# Altium footprint library MB1419.PcbLib: 49 footprints (part 2 of 4)
Each footprint in its own frame and in the unit in brackets; x right, y up, seen from the top. Pads: shape width x height; smd on the part's side, far side on the other; paste and mask are expansions set on the pad; w line width, h text height; cw(c..) or ccw(c..) is an arc to the next point about the centre after c.
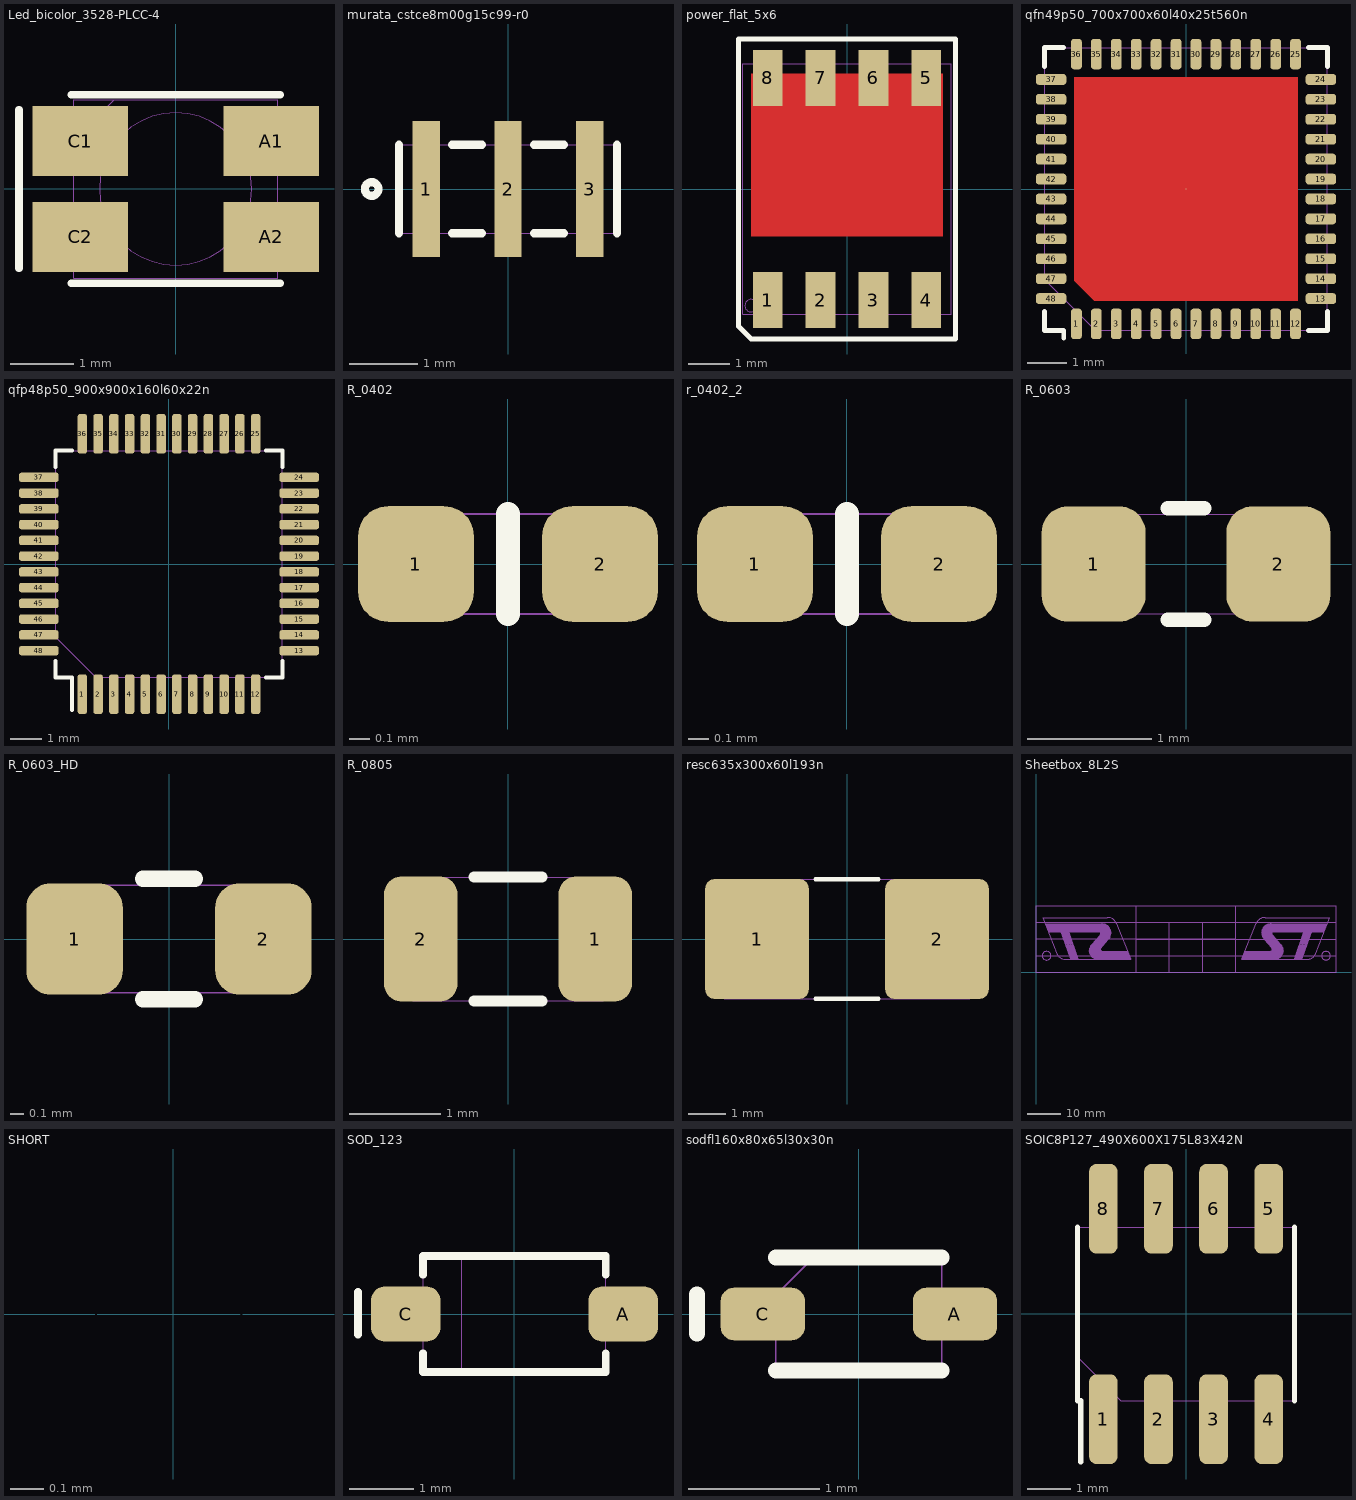
[diagram p1: the footprints below, top view; thin cyan lines are the x and y axes]

## Led_bicolor_3528-PLCC-4 [mm]
pads (4):
  rect 1.5x1.1 smd mask+0.05: A1(1.5,0.75) A2(1.5,-0.753) C1(-1.5,0.75) C2(-1.5,-0.753)
Top Overlay:
  lines w0.12: -2.46,-1.245 -2.46,1.245 ; -1.638,-1.48 1.638,-1.48 ; -1.638,1.48 1.638,1.48
Mechanical 14:
  circle w0.01: c0,0 r1.196
  lines w0.01: -1.6,0.765 -0.965,1.4 ; -1.6,-1.4 -1.6,1.4 1.6,1.4 1.6,-1.4 -1.6,-1.4
  text "'.Designator'" at -2,-0.5 h0.75
  text "K" at -2.175,-1.1 h1
  text "K" at -2.175,0.425 h1
  text "C2" at -1.55,-0.925 h0.5
  text "C1" at -1.5,0.575 h0.5
  text "A1" at 1.075,0.6 h0.5
  text "A2" at 1.025,-0.925 h0.5
3D body "SBTW-3528.stp": height 1.91, standoff 0.01, extent -1.75,-1.4 1.75,1.4

## murata_cstce8m00g15c99-r0 [mm]
pads (3):
  rect 0.4x2 smd mask+0.05: 1(-1.2,0) 2(0,0) 3(1.2,0)
Top Overlay:
  circle w0.12: c-2,0 r0.1
  lines w0.12: -1.6,-0.65 -1.6,0.65 ; -0.82,-0.65 -0.38,-0.65 ; -0.82,0.65 -0.38,0.65 ; 0.38,-0.65 0.82,-0.65 ; 0.38,0.65 0.82,0.65 ; 1.6,-0.65 1.6,0.65
Mechanical 14:
  circle w0.01: c-1.2,0.375 r0.1
  lines w0.01: -1.6,-0.65 1.6,-0.65 1.6,0.65 -1.6,0.65 -1.6,-0.65
  text "'.Designator'" at -2,-0.1 h0.75
  text "1" at -1.325,-0.6 h1
  text "3" at 1,-0.6 h1
  text "2" at -0.225,-0.6 h1
3D body "CSTCE.STEP": height 0.7, standoff 0, extent -1.6,-0.65 1.6,0.65

## power_flat_5x6 [mm]
pads (8):
  rect 0.71x1.35 smd mask+0.05: 1(-1.905,-2.665) 2(-0.635,-2.665) 3(0.635,-2.665) 4(1.905,-2.665) 5(1.905,2.665) 6(0.635,2.665) 7(-0.635,2.665) 8(-1.905,2.665)
Top Layer:
  region: 2.3,-1.13 2.3,2.77 -2.3,2.77 -2.3,-1.13
Top Overlay:
  lines w0.12: -2.6,-3.3 -2.6,3.6 2.6,3.6 2.6,-3.6 -2.3,-3.6 -2.6,-3.3
Top Paste:
  rectangle: 0.2,-1.1 2.159,0.594
  rectangle: 0.2,0.994 2.159,2.694
  rectangle: -2.15,-1.1 -0.2,0.6
  rectangle: -2.15,0.997 -0.2,2.697
Mechanical 14:
  circle w0.01: c-2.3,-2.8 r0.15
  lines w0.01: -2.5,-3 2.5,-3 2.5,3 -2.5,3 -2.5,-3
  text "'.Designator'" at 1.975,0.275 h0.75
  text "5" at 1.7,2.3 h1
  text "4" at 1.675,-2.95 h1
  text "6" at 0.425,2.3 h1
  text "7" at -0.85,2.3 h1
  text "8" at -2.125,2.3 h1
  text "2" at -0.85,-2.95 h1
  text "1" at -2.025,-2.95 h1
  text "3" at 0.425,-2.95 h1
3D body "PowerFLAT 5x6.STEP": height 0.98, standoff -0.01, extent -2.605,-3.1 2.595,3.05

## qfn49p50_700x700x60l40x25t560n [mm]
pads (49):
  rrect52% 0.27x0.76 smd mask+0.05: 1(-2.75,-3.385) 2(-2.25,-3.385) 3(-1.75,-3.385) 4(-1.25,-3.385) 5(-0.75,-3.385) 6(-0.25,-3.385) 7(0.25,-3.385) 8(0.75,-3.385) 9(1.25,-3.385) 10(1.75,-3.385) 11(2.25,-3.385) 12(2.75,-3.385) 25(2.75,3.385) 26(2.25,3.385) 27(1.75,3.385) 28(1.25,3.385) 29(0.75,3.385) 30(0.25,3.385) 31(-0.25,3.385) 32(-0.75,3.385) 33(-1.25,3.385) 34(-1.75,3.385) 35(-2.25,3.385) 36(-2.75,3.385)
  rrect52% 0.76x0.27 smd mask+0.05: 13(3.385,-2.75) 14(3.385,-2.25) 15(3.385,-1.75) 16(3.385,-1.25) 17(3.385,-0.75) 18(3.385,-0.25) 19(3.385,0.25) 20(3.385,0.75) 21(3.385,1.25) 22(3.385,1.75) 23(3.385,2.25) 24(3.385,2.75) 37(-3.385,2.75) 38(-3.385,2.25) 39(-3.385,1.75) 40(-3.385,1.25) 41(-3.385,0.75) 42(-3.385,0.25) 43(-3.385,-0.25) 44(-3.385,-0.75) 45(-3.385,-1.25) 46(-3.385,-1.75) 47(-3.385,-2.25) 48(-3.385,-2.75)
  oct 0.025x0.025 smd mask+0.05: 49(0,0)
Top Layer:
  region: -2.8,2.8 -2.8,-2.3 -2.3,-2.8 2.8,-2.8 2.8,2.8
Top Overlay:
  lines w0.12: -3.55,-3.07 -3.55,-3.55 -3.07,-3.55 -3.07,-3.745 ; -3.55,3.07 -3.55,3.55 -3.07,3.55 ; 3.07,-3.55 3.55,-3.55 3.55,-3.07 ; 3.07,3.55 3.55,3.55 3.55,3.07
Top Paste:
  rectangle: 1.21,-2.53 2.53,-1.21
  rectangle: -0.66,-2.53 0.66,-1.21
  rectangle: -2.53,-2.53 -1.21,-1.21
  rectangle: -2.53,-0.66 -1.21,0.66
  rectangle: -0.66,-0.66 0.66,0.66
  rectangle: 1.21,-0.66 2.53,0.66
  rectangle: 1.21,1.21 2.53,2.53
  rectangle: -0.66,1.21 0.66,2.53
  rectangle: -2.53,1.21 -1.21,2.53
Mechanical 14:
  lines w0.01: -3.55,-2.28 -3.55,3.55 3.55,3.55 3.55,-3.55 -2.28,-3.55 -3.55,-2.28
  text "'.Designator'" at 1,2 h0.75
  text "37" at -3.5,2.375 h0.75
  text "36" at -3.1,3.025 h0.75
  text "24" at 2.8,2.375 h0.75
  text "12" at 2.45,-3.5 h0.75
  text "25" at 2.4,3.025 h0.75
  text "49" at -0.525,-0.325 h1
  text "13" at 2.85,-2.825 h0.75
  text "48" at -3.475,-2.85 h0.75
  text "1" at -2.875,-3.7 h0.75
3D body "QFN48 7x7.STEP": height 0.78, standoff -0.02, extent -3.51,-3.51 3.51,3.51

## qfp48p50_900x900x160l60x22n [mm]
pads (48):
  rrect53% 0.3x1.26 smd mask+0.05: 1(-2.75,-4.13) 2(-2.25,-4.13) 3(-1.75,-4.13) 4(-1.25,-4.13) 5(-0.75,-4.13) 6(-0.25,-4.13) 7(0.25,-4.13) 8(0.75,-4.13) 9(1.25,-4.13) 10(1.75,-4.13) 11(2.25,-4.13) 12(2.75,-4.13) 25(2.75,4.13) 26(2.25,4.13) 27(1.75,4.13) 28(1.25,4.13) 29(0.75,4.13) 30(0.25,4.13) 31(-0.25,4.13) 32(-0.75,4.13) 33(-1.25,4.13) 34(-1.75,4.13) 35(-2.25,4.13) 36(-2.75,4.13)
  rrect53% 1.26x0.3 smd mask+0.05: 13(4.13,-2.75) 14(4.13,-2.25) 15(4.13,-1.75) 16(4.13,-1.25) 17(4.13,-0.75) 18(4.13,-0.25) 19(4.13,0.25) 20(4.13,0.75) 21(4.13,1.25) 22(4.13,1.75) 23(4.13,2.25) 24(4.13,2.75) 37(-4.13,2.75) 38(-4.13,2.25) 39(-4.13,1.75) 40(-4.13,1.25) 41(-4.13,0.75) 42(-4.13,0.25) 43(-4.13,-0.25) 44(-4.13,-0.75) 45(-4.13,-1.25) 46(-4.13,-1.75) 47(-4.13,-2.25) 48(-4.13,-2.75)
Top Overlay:
  lines w0.12: -3.6,-3.08 -3.6,-3.6 -3.08,-3.6 -3.08,-4.64 ; -3.6,3.08 -3.6,3.6 -3.08,3.6 ; 3.08,-3.6 3.6,-3.6 3.6,-3.08 ; 3.08,3.6 3.6,3.6 3.6,3.08
Mechanical 14:
  lines w0.01: -3.6,-2.33 -3.6,3.6 3.6,3.6 3.6,-3.6 -2.33,-3.6 -3.6,-2.33
  text "'.Designator'" at 2.055,0.46 h0.75
  text "24" at 3.725,2.425 h1
  text "25" at 2.3,3.7 h1
  text "13" at 3.7,-3.05 h1
  text "12" at 2.35,-4.375 h1
  text "36" at -3.2,3.7 h1
  text "37" at -4.625,2.425 h1
  text "1" at -2.875,-4.5 h1
  text "48" at -4.625,-3.075 h1
3D body "QFP50P900X900X145-48.STEP": height 1.45, standoff 0, extent -4.5,-4.5 4.5,4.5

## R_0402 [mm]
pads (2):
  rrect52% 0.58x0.58 smd mask+0.05: 1(-0.46,0) 2(0.46,0)
Top Overlay:
  lines w0.12: 0,-0.25 0,0.25
Mechanical 14:
  lines w0.01: -0.5,-0.25 -0.5,0.25 0.5,0.25 0.5,-0.25 -0.5,-0.25
  text "'.Designator'" at -2.025,0.075 h0.75
  text "2" at 0.15,-0.25 h0.75
  text "1" at -0.475,-0.25 h0.75
3D body "RESC1005.STEP": height 0.4, standoff 0, extent -0.5,-0.25 0.5,0.25

## r_0402_2 [mm]
pads (2):
  rrect52% 0.58x0.58 smd mask+0.05: 1(-0.46,0) 2(0.46,0)
Top Overlay:
  lines w0.12: 0,-0.25 0,0.25
Mechanical 14:
  lines w0.01: -0.5,-0.25 -0.5,0.25 0.5,0.25 0.5,-0.25 -0.5,-0.25
  text "'.Designator'" at -2.025,0.07 h0.75
  text "2" at 0.15,-0.25 h0.75
  text "1" at -0.475,-0.25 h0.75
3D body "RESC1005.STEP": height 0.4, standoff 0, extent -0.5,-0.25 0.5,0.25

## R_0603 [mm]
pads (2):
  rrect50% 0.84x0.93 smd mask+0.05: 1(-0.745,0) 2(0.745,0)
Top Overlay:
  lines w0.12: -0.145,-0.45 0.145,-0.45 ; -0.145,0.45 0.145,0.45
Mechanical 14:
  lines w0.01: -0.8,-0.4 -0.8,0.4 0.8,0.4 0.8,-0.4 -0.8,-0.4
  text "'.Designator'" at 2,1.225 h0.75
  text "2" at 0.325,-0.325 h1
  text "1" at -0.75,-0.325 h1
3D body "RESC1608X50.STEP": height 0.5, standoff 0, extent -0.787,-0.425 0.787,0.425

## R_0603_HD [mm]
pads (2):
  rrect50% 0.72x0.83 smd mask+0.05: 1(-0.705,0) 2(0.705,0)
Top Overlay:
  lines w0.12: -0.195,-0.45 0.195,-0.45 ; -0.195,0.45 0.195,0.45
Mechanical 14:
  lines w0.01: -0.8,-0.4 -0.8,0.4 0.8,0.4 0.8,-0.4 -0.8,-0.4
  text "'.Designator'" at -1.995,0.255 h0.75
  text "1" at -0.775,-0.325 h1
  text "2" at 0.35,-0.325 h1
3D body "RESC1608X50.STEP": height 0.5, standoff 0, extent -0.787,-0.425 0.787,0.425

## R_0805 [mm]
pads (2):
  rrect49% 0.81x1.38 smd mask+0.05: 1(0.96,0) 2(-0.96,0)
Top Overlay:
  lines w0.12: -0.375,-0.68 0.375,-0.68 ; -0.375,0.68 0.375,0.68
Mechanical 14:
  lines w0.01: -1.05,-0.68 1.05,-0.68 1.05,0.68 -1.05,0.68 -1.05,-0.68
  text "'.Designator'" at 2.075,-0.5 h0.75
  text "1" at 0.775,-0.325 h1
  text "2" at -1,-0.325 h1
3D body "RESC2012X70.step": height 0.7, standoff 0, extent -1,-0.625 1,0.625

## resc635x300x60l193n [mm]
pads (2):
  rrect18% 2.78x3.22 smd mask+0.05: 1(-2.415,0) 2(2.415,0)
Top Overlay:
  lines w0.12: -0.845,-1.6 0.845,-1.6 ; -0.845,1.6 0.845,1.6
Mechanical 14:
  lines w0.01: -3.3,-1.6 3.3,-1.6 3.3,1.6 -3.3,1.6 -3.3,-1.6
  text "'.Designator'" at 0.425,-2.075 h0.75
  text "1" at -3.15,-0.35 h1
  text "2" at 2.7,-0.3 h1
3D body "RESC6330.STEP": height 0.7, standoff 0, extent -3.15,-1.575 3.15,1.575

## Sheetbox_8L2S [mil]
pads (2):
  round 20 on Mech21: 1(813.5,208.05)
  round 20 on Mech20: 1(2736.63,208.05)
Top Layer:
  text ".Layer_Name" at 354.06,457.99 h118.11
  text ".GTL" at 1995.59,457.99 h118.11
Mid-Layer 1:
  text ".G1" at 1995.59,457.99 h118.11
  text ".Layer_Name" at 354.06,457.99 h118.11
Mid-Layer 2:
  text ".G2" at 1995.59,457.99 h118.11
  text ".Layer_Name" at 354.06,457.99 h118.11
Mid-Layer 3:
  text ".G3" at 1995.59,457.99 h118.11
  text ".Layer_Name" at 354.06,457.99 h118.11
Mid-Layer 4:
  text ".G4" at 1997.19,457.99 h118.11
  text ".Layer_Name" at 355.66,457.99 h118.11
Mid-Layer 5:
  text ".G5" at 1995.59,457.99 h118.11
  text ".Layer_Name" at 354.06,457.99 h118.11
Mid-Layer 6:
  text ".G6" at 1995.59,457.99 h118.11
  text ".Layer_Name" at 354.06,457.99 h118.11
Bottom Layer:
  text ".Layer_Name" at 3181.05,456.73 h118.11
  text ".GBL" at 1554.52,456.73 h118.11
Top Overlay:
  text ".Layer_Name" at 354.06,457.99 h118.11
  text ".GTO" at 1995.59,457.99 h118.11
Bottom Overlay:
  text ".GBO" at 1554.52,456.73 h118.11
  text ".Layer_Name" at 3181.05,456.73 h118.11
Top Paste:
  text ".Layer_Name" at 354.06,457.99 h118.11
  text ".GTP" at 1995.59,457.99 h118.11
Bottom Paste:
  text ".GBP" at 1554.52,456.73 h118.11
  text ".Layer_Name" at 3181.05,456.73 h118.11
Top Solder:
  text ".Layer_Name" at 354.06,457.99 h118.11
  text ".GTS" at 1995.59,457.99 h118.11
Bottom Solder:
  text ".GBS" at 1554.52,456.73 h118.11
  text ".Layer_Name" at 3181.05,456.73 h118.11
Mechanical 2:
  text ".Layer_Name" at 354.06,457.99 h118.11
  text ".GM2" at 1995.59,457.99 h118.11
Mechanical 14:
  text ".Layer_Name" at 354.06,457.99 h118.11
  text ".GM14" at 1995.59,457.99 h118.11
Mechanical 15:
  text ".GM15" at 1554.52,456.73 h118.11
  text ".Layer_Name" at 3181.05,456.73 h118.11
Drill Drawing:
  text ".Layer_Name" at 354.06,457.99 h118.11
  text ".DRL" at 1995.59,457.99 h118.11
Mechanical 20:
  circle w10: c3425.09,193.4 r51.18
  region: 2855.09,150.36 2431.63,150.36 2470.74,248.51 2780.09,248.51 2797.76,278.4 2884.71,178.07
  region: 3406.4,478.29 2795.09,478.29 2767.76,408.4 2720.09,360.17 2665.09,433.4 2665.09,498.4 2710.09,553.4 2766.63,568.29 3406.4,568.29
  lines w10: 2470.74,248.51 2816.87,248.51 2696.16,387.79 cw(c2767.17,464.32) 2776.63,568.29 3436.63,568.29 3406.63,478.29 ; 2601.2,578.03 cw(c2696.71,539.82) 2706.03,642.27 ; 2602.74,579.3 2431.63,150.36 3192.36,150.36 ccw(c3202.15,258.02) 3302.51,217.87 ; 2671.24,424.39 2884.71,178.07 ; 2681.24,424.39 2890.09,183.4 ; 2681.24,434.39 2890.09,193.4 ; 2685.09,478.29 3196.63,478.29 ; 2686.24,439.39 2895.09,198.4 ; 2691.24,444.39 2900.09,203.4 ; 2696.24,449.39 2905.09,208.4 ; 2701.24,454.39 2910.09,213.4 ; 2703.39,531.26 2912.25,290.27 ; 2706.08,642.27 3471.81,642.27 3302.55,217.96 ; 2706.24,459.39 2912.95,220.88 ; 2706.24,469.39 2915.09,228.4 ; 2706.24,479.39 2915.09,238.4 ; 2706.24,514.39 2915.09,273.4 ; 2711.24,484.39 2920.09,243.4 ; 2711.24,499.39 2920.09,258.4 ; 2765.24,247.98 ccw(c2769.37,269.05) 2781.09,287.05 ; 2808.01,478.82 ccw(c2806.99,456.48) 2793.99,438.29 2887.09,330.87 cw(c2816.08,254.34) 2844.92,154 ; 3055.31,158.4 3169.06,488.29 ; 3064.06,160.36 3177.03,487.95 ; 3069.06,160.36 3182.03,487.95 ; 3079.06,160.36 3192.03,487.95 ; 3089.06,160.36 3202.03,487.95 ; 3099.06,160.36 3212.03,487.95 ; 3109.06,160.36 3222.03,487.95 ; 3119.06,160.36 3232.03,487.95 ; 3129.06,160.36 3242.03,487.95 ; 3139.06,160.36 3252.03,487.95 ; 3147.28,158.4 3261.03,488.29 ; 3261.03,478.29 3406.4,478.29 ; 3380.09,478.4 3410.09,568.4 ; 3386.63,478.29 3416.63,568.29 ; 3396.63,478.29 3426.63,568.29
  lines w11.81: -0.28,-2.64 3543.03,-2.64 3543.03,784.76 -0.28,784.76 ; -0.28,194.21 2361.93,194.21 ; -0.28,391.06 2361.93,391.06 ; -0.28,587.91 2361.93,587.91 ; -0.26,-2.64 -0.26,784.76 ; 1574.53,-2.64 1574.53,587.91 ; 2361.93,-2.64 2361.93,784.76 ; 3055.31,158.4 3147.28,158.4
  text "Project: '.Board_Name'" at 39.1,658.15 h118.11
  text "Rev: '.Board_PCB_Revision'" at 1616.22,64.29 h118.11
  text "Ref: '.Board_Reference'" at 1618.46,261.14 h118.11
  text "Date: '.Board_Document_Date'" at 39.1,64.29 h118.11
  text "R" at 3405.09,163.4 h60
  text "Layer:" at 39.11,457.99 h118.11
  text "Gerber:" at 1613.46,457.99 h118.11
  text "Variant: '.VariantName'" at 39.1,261.14 h118.11
Mechanical 21:
  circle w10: c125.03,193.4 r51.18
  region: 143.73,478.29 755.03,478.29 782.37,408.4 830.03,360.17 885.03,433.4 885.03,498.4 840.03,553.4 783.5,568.29 143.73,568.29
  region: 695.03,150.36 1118.5,150.36 1079.39,248.51 770.03,248.51 752.37,278.4 665.41,178.07
  lines w10: 123.5,568.29 153.5,478.29 ; 133.5,568.29 163.5,478.29 ; 140.03,568.4 170.03,478.4 ; 143.5,478.29 113.5,568.29 773.5,568.29 cw(c782.95,464.32) 853.97,387.79 733.25,248.51 1079.39,248.51 ; 143.73,478.29 289.09,478.29 ; 247.61,217.87 ccw(c347.98,258.02) 357.77,150.36 1118.5,150.36 947.39,579.3 ; 247.58,217.96 78.31,642.27 844.05,642.27 ; 289.09,488.29 402.85,158.4 ; 298.1,487.95 411.06,160.36 ; 308.1,487.95 421.06,160.36 ; 318.1,487.95 431.06,160.36 ; 328.1,487.95 441.06,160.36 ; 338.1,487.95 451.06,160.36 ; 348.1,487.95 461.06,160.36 ; 353.5,478.29 865.03,478.29 ; 358.1,487.95 471.06,160.36 ; 368.1,487.95 481.06,160.36 ; 373.1,487.95 486.06,160.36 ; 381.06,488.29 494.82,158.4 ; 630.03,243.4 838.89,484.39 ; 630.03,258.4 838.89,499.39 ; 635.03,228.4 843.89,469.39 ; 635.03,238.4 843.89,479.39 ; 635.03,273.4 843.89,514.39 ; 637.18,220.88 843.89,459.39 ; 637.88,290.27 846.74,531.26 ; 640.03,213.4 848.89,454.39 ; 645.03,208.4 853.89,449.39 ; 650.03,203.4 858.89,444.39 ; 655.03,198.4 863.89,439.39 ; 660.03,183.4 868.89,424.39 ; 660.03,193.4 868.89,434.39 ; 665.41,178.07 878.89,424.39 ; 705.2,154 cw(c734.05,254.34) 663.03,330.87 756.14,438.29 ccw(c743.13,456.48) 742.11,478.82 ; 769.03,287.05 ccw(c780.75,269.05) 784.89,247.98 ; 844.1,642.27 cw(c853.41,539.82) 948.93,578.03
  lines w11.81: 402.85,158.4 494.82,158.4 ; 1180.83,-2.64 1180.83,784.76 ; 1180.83,194.21 3543.03,194.21 ; 1180.83,391.06 3543.03,391.06 ; 1180.83,587.91 3543.03,587.91 ; 1968.23,-2.64 1968.23,587.91 ; -0.28,-2.64 -0.28,784.76 3543.03,784.76 3543.03,-2.64 -0.28,-2.64
  text "Variant: '.VariantName'" at 3496.02,261.14 h118.11
  text "Gerber:" at 1921.66,457.99 h118.11
  text "Layer:" at 3496.01,457.99 h118.11
  text "R" at 145.03,163.4 h60
  text "Date: '.Board_Document_Date'" at 3496.02,64.29 h118.11
  text "Ref: '.Board_Reference'" at 1921.66,261.14 h118.11
  text "Rev: '.Board_PCB_Revision'" at 1923.91,64.29 h118.11
  text "Project: '.Board_Name'" at 3496.02,658.15 h118.11

## SHORT [mm]
pads (2):
  rect 0.462x0.2 on Mid4: 1(-0.226,0) 2(0.201,0)
Mechanical 14:
  text "'.Designator'" at -2.075,0.025 h0.75
  text "1" at -0.4,-0.15 h0.5
  text "2" at 0.175,-0.15 h0.5

## SOD_123 [mm]
pads (2):
  rrect51% 1.08x0.86 smd mask+0.05: A(1.69,0) C(-1.69,0)
Top Overlay:
  lines w0.12: -2.43,-0.32 -2.43,0.34 ; -1.42,-0.61 -1.42,-0.9 1.42,-0.9 1.42,-0.61 ; -1.42,0.61 -1.42,0.9 1.42,0.9 1.42,0.61
Mechanical 14:
  lines w0.01: -0.82,-0.9 -0.82,0.9 ; -1.42,-0.9 -1.42,0.9 1.42,0.9 1.42,-0.9 -1.42,-0.9
  text "'.Designator'" at -1.95,-0.125 h0.75
  text "K" at -2.075,-0.3 h1
  text "A" at 0.775,-0.35 h1
  text "C" at -1.4,-0.3 h1
3D body "SOD123.STEP": height 1.27, standoff 0, extent -1.85,-0.8 1.85,0.8

## sodfl160x80x65l30x30n [mm]
pads (2):
  rrect50% 0.64x0.4 smd mask+0.05: A(0.73,0) C(-0.73,0)
Top Overlay:
  lines w0.12: -1.23,-0.15 -1.23,0.15 ; -0.63,-0.43 0.63,-0.43 ; -0.63,0.43 0.63,0.43
Mechanical 14:
  lines w0.01: -0.63,-0.43 -0.63,0.143 -0.343,0.43 0.63,0.43 0.63,-0.43 -0.63,-0.43
  text "'.Designator'" at 2,0.375 h0.75
  text "C" at -1.075,-0.25 h0.75
  text "A" at 0.65,-0.225 h0.75
3D body "SODFL1608X65.STEP": height 0.65, standoff 0, extent -0.8,-0.4 0.8,0.4

## SOIC8P127_490X600X175L83X42N [mm]
pads (8):
  rrect52% 0.66x2.07 smd mask+0.05: 1(-1.905,-2.425) 2(-0.635,-2.425) 3(0.635,-2.425) 4(1.905,-2.425) 5(1.905,2.425) 6(0.635,2.425) 7(-0.635,2.425) 8(-1.905,2.425)
Top Overlay:
  lines w0.12: -2.5,2 -2.5,-2 -2.43,-2 -2.43,-3.41 ; 2.5,-2 2.5,2
Mechanical 14:
  lines w0.01: -2.5,-1 -2.5,2 2.5,2 2.5,-2 -1.5,-2 -2.5,-1
  text "'.Designator'" at -2,-0.5 h0.75
  text "1" at -2.025,-2.725 h1
  text "8" at -2.125,2.1 h1
  text "2" at -0.85,-2.725 h1
  text "3" at 0.425,-2.725 h1
  text "4" at 1.675,-2.75 h1
  text "6" at 0.425,2.075 h1
  text "7" at -0.825,2.1 h1
  text "5" at 1.675,2.075 h1
3D body "SOIC127P600X175.STEP": height 1.75, standoff 0, extent -2.45,-3 2.45,3